# EAGLE library part JAMMA_BOTTOM (library JAMMA)
JAMMA Connector Bottom Solder side for these card-edge connenctors HIROSE CR7E-56DA-3.96E HIROSE CR7E-56DB-3.96E KEL 1168-056-009
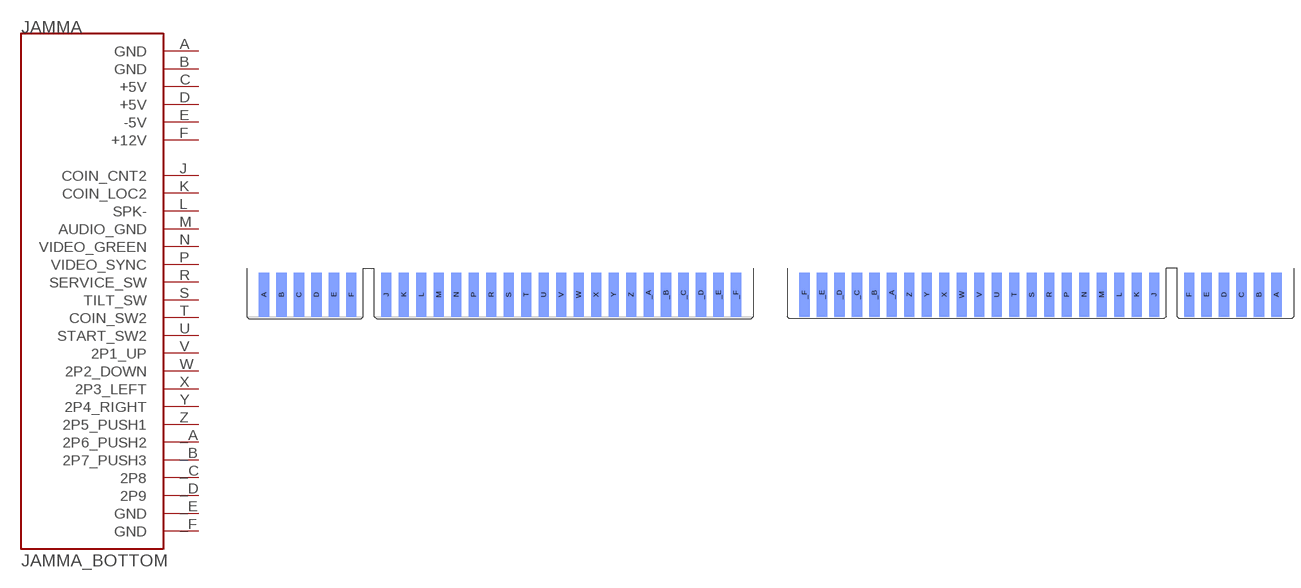
[diagram p1: symbol with the pads of JAMMA_BOTTOM; footprints JAMMA_BOTTOM, JAMMA_BOTTOM_INV]

Designator prefix JAMMA

## JAMMA_BOTTOM  [JAMMA_BOTTOM]
_A  2P6_PUSH2  in
_B  2P7_PUSH3  in
_C  2P8  in
_D  2P9  in
_E  GND  pwr
_F  GND  pwr
A  GND  pwr
B  GND  pwr
C  +5V  pwr
D  +5V  pwr
E  -5V  pwr
F  +12V  pwr
J  COIN_CNT2  out
K  COIN_LOC2  out
L  SPK-  out
M  AUDIO_GND  out
N  VIDEO_GREEN  out
P  VIDEO_SYNC  out
R  SERVICE_SW  in
S  TILT_SW  in
T  COIN_SW2  in
U  START_SW2  in
V  2P1_UP  in
W  2P2_DOWN  in
X  2P3_LEFT  in
Y  2P4_RIGHT  in
Z  2P5_PUSH1  in

## JAMMA_BOTTOMINVERTED  [JAMMA_BOTTOM_INV]
Pads as for JAMMA_BOTTOM

## Footprint JAMMA_BOTTOM (pad centres in mm)
JAMMA Connector Bottom Solder side for these card-edge connenctors HIROSE CR7E-56DA-3.96E HIROSE CR7E-56DB-3.96E KEL 1168-056-009
smd 2.3 x 10 bottom: _A 33.66,0; _B 37.62,0; _C 41.58,0; _D 45.54,0; _E 49.5,0; _F 53.46,0; A -53.46,0; B -49.5,0; C -45.54,0; D -41.58,0; E -37.62,0; F -33.66,0; J -25.74,0; K -21.78,0; L -17.82,0; M -13.86,0; N -9.9,0; P -5.94,0; R -1.98,0; S 1.98,0; T 5.94,0; U 9.9,0; V 13.86,0; W 17.82,0; X 21.78,0; Y 25.74,0; Z 29.7,0

## Footprint JAMMA_BOTTOM_INV (pad centres in mm)
JAMMA Connector Bottom Solder side for these card-edge connenctors HIROSE CR7E-56DA-3.96E HIROSE CR7E-56DB-3.96E KEL 1168-056-009
smd 2.3 x 10 bottom: _A -29.85,0; _B -33.81,0; _C -37.77,0; _D -41.73,0; _E -45.69,0; _F -49.65,0; A 57.27,0; B 53.31,0; C 49.35,0; D 45.39,0; E 41.43,0; F 37.47,0; J 29.55,0; K 25.59,0; L 21.63,0; M 17.67,0; N 13.71,0; P 9.75,0; R 5.79,0; S 1.83,0; T -2.13,0; U -6.09,0; V -10.05,0; W -14.01,0; X -17.97,0; Y -21.93,0; Z -25.89,0